# Altium footprint library PCB_Ticketing_Master.PcbLib: 25 footprints (part 1 of 2)
Each footprint in its own frame and in the unit in brackets; x right, y up, seen from the top. Pads: shape width x height; smd on the part's side, far side on the other; paste and mask are expansions set on the pad; w line width, h text height; cw(c..) or ccw(c..) is an arc to the next point about the centre after c.
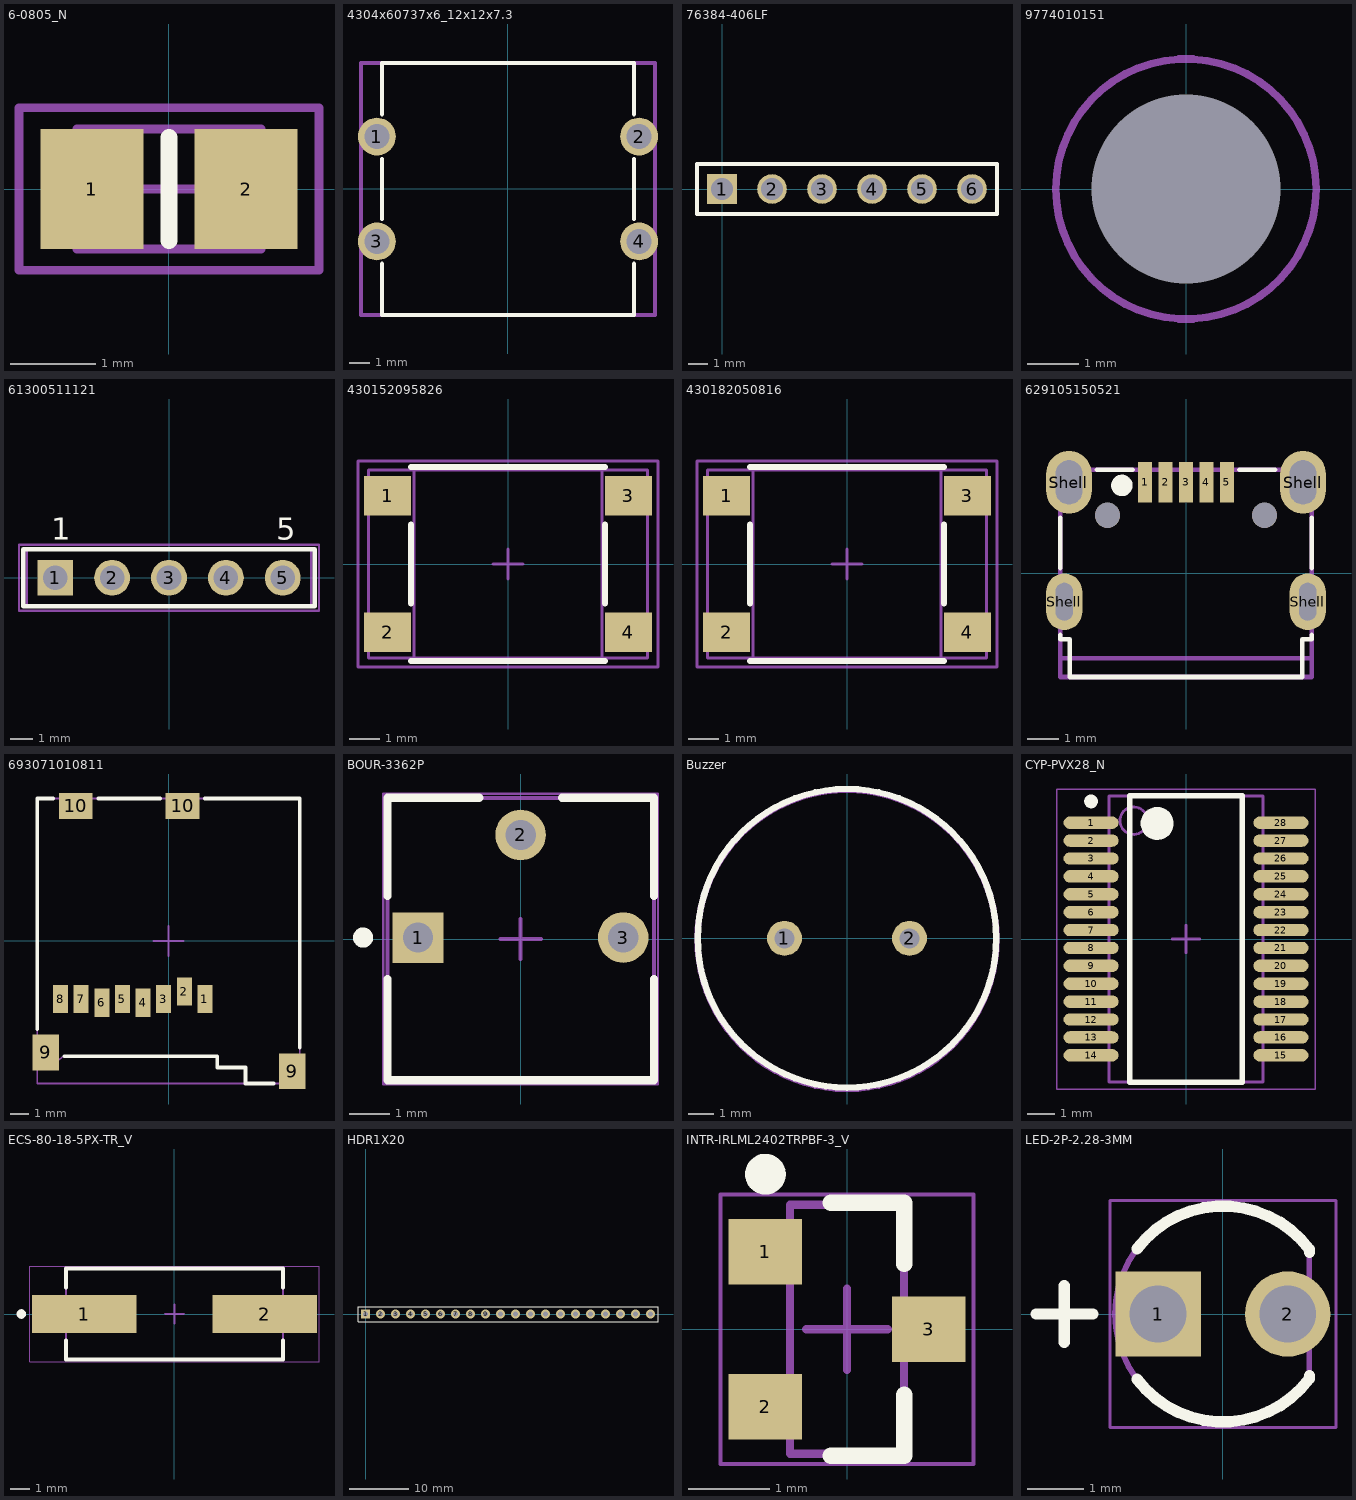
[diagram p0: the footprints below, top view; thin cyan lines are the x and y axes]

## 6-0805_N [mm] "Chip Resistor, Body 2.0x1.2mm, IPC Medium Density"
height 0.7
pads (2):
  rect 1.2x1.4 smd: 1(-0.9,0) 2(0.9,0)
Top Overlay:
  lines w0.2: 0,-0.6 0,0.6
Mechanical 13:
  lines w0.1: -1.075,-0.7 -1.075,0.7 1.075,0.7 1.075,-0.7 -1.075,-0.7
Mechanical 15:
  lines w0.1: -0.5,0 0.5,0 ; 0,-0.5 0,0.5 ; -1.75,-0.95 -1.75,0.95 1.75,0.95 1.75,-0.95 -1.75,-0.95
3D body: height 0.7, standoff 0, extent -1.075,-0.7 1.075,0.7

## 4304x60737x6_12x12x7.3 [mm] "12x12mm washable Tact Switch, THT version"
height 7.3
pads (4):
  round 1.8 hole 1.2: 1(-6.25,2.5) 2(6.25,2.5) 3(-6.25,-2.5) 4(6.25,-2.5)
Top Overlay:
  lines w0.2: -6,-3.56 -6,-6 6,-6 6,-3.56 ; -6,-1.43 -6,1.43 ; -6,3.56 -6,6 6,6 6,3.56 ; 6,-1.43 6,1.43
Mechanical 13:
  lines w0.2: -7,-6 7,-6 7,6 -7,6 -7,-6
3D body "4304x60737x6.stp": height 7.35, standoff -3.45, extent -6.985,-6 6.986,6

## 76384-406LF [mm] "Connector; Header; 6 Position"
pads (6):
  rect 1.5x1.5 hole 1.1: 1(0,0)
  round 1.5 hole 1.1: 2(2.54,0) 3(5.08,0) 4(7.62,0) 5(10.16,0) 6(12.7,0)
Top Overlay:
  lines w0.2: -1.27,-1.27 -1.27,1.27 13.97,1.27 13.97,-1.27 -1.27,-1.27
3D body "76384-406LF--3DModel-STEP-533217.STEP": height 8.84, standoff -3.93, extent -0.72,-2.575 13.52,2.674

## 9774010151 [mm] "M2.5 Thread Internal, Length 1mm"
height 1
pads (1):
  round 0 hole 3.7 unplated paste-403.566: 1(0,0)
Top Paste:
  region: 0.25,2.939 0.508,2.917 1.009,2.784 1.478,2.566 1.903,2.269 2.269,1.903 2.566,1.478 2.784,1.009 2.917,0.508 2.939,0.25 1.883,0.25 1.857,0.403 1.767,0.699 1.629,0.977 1.449,1.229 1.229,1.449 0.977,1.629 0.7,1.767 0.403,1.857 0.25,1.883
  region: -2.939,0.25 -2.917,0.508 -2.784,1.009 -2.566,1.478 -2.269,1.903 -1.903,2.269 -1.478,2.566 -1.009,2.784 -0.508,2.917 -0.25,2.939 -0.25,1.883 -0.403,1.857 -0.699,1.767 -0.977,1.629 -1.229,1.449 -1.449,1.229 -1.629,0.977 -1.767,0.7 -1.857,0.403 -1.883,0.25
  region: -0.25,-2.939 -0.508,-2.917 -1.009,-2.784 -1.478,-2.566 -1.903,-2.269 -2.269,-1.903 -2.566,-1.478 -2.784,-1.009 -2.917,-0.508 -2.939,-0.25 -1.883,-0.25 -1.857,-0.403 -1.767,-0.699 -1.629,-0.977 -1.449,-1.229 -1.229,-1.449 -0.977,-1.629 -0.7,-1.767 -0.403,-1.857 -0.25,-1.883
  region: 2.939,-0.25 2.917,-0.508 2.784,-1.009 2.566,-1.478 2.269,-1.903 1.903,-2.269 1.478,-2.566 1.009,-2.784 0.508,-2.917 0.25,-2.939 0.25,-1.883 0.403,-1.857 0.699,-1.767 0.977,-1.629 1.229,-1.449 1.449,-1.229 1.629,-0.977 1.767,-0.7 1.857,-0.403 1.883,-0.25
Mechanical 13:
  circle w0.15: c0,0 r2.55

## 61300511121 [mm] "Pin Header, pitch 2.54 mm, THT, Vertical, single row, 5p"
height 8.54
pads (5):
  rect 1.6x1.6 hole 1.1: 1(-5.08,0)
  round 1.6 hole 1.1: 2(-2.54,0) 3(0,0) 4(2.54,0) 5(5.08,0)
Top Overlay:
  lines w0.2: -6.5,-1.27 -6.5,1.27 6.5,1.27 6.5,-1.27 -6.5,-1.27
  text "5" at 4.8,1.7 h1
  text "1" at -5.27,1.7 h1
Mechanical 11:
  lines w0.1: -6.35,-1.27 6.35,-1.27 6.35,1.27 -6.35,1.27 -6.35,-1.27
Mechanical 13:
  lines w0.1: -6.5,-1.27 -6.5,1.27 6.5,1.27 6.5,-1.27 -6.5,-1.27
Mechanical 15:
  lines w0.1: -0.5,0 0.5,0 ; 0,-0.5 0,0.5 ; -6.7,-1.47 -6.7,1.47 6.7,1.47 6.7,-1.47 -6.7,-1.47
3D body "61300511121.stp": height 8.57, standoff -2.97, extent -6.35,-1.27 6.35,1.27

## 430152095826 [mm] "SMD Tact Switch, body 6x6mm"
height 9.5
pads (4):
  rect 1.55x1.3 smd: 1(-3.975,2.25) 2(-3.975,-2.25) 3(3.975,2.25) 4(3.975,-2.25)
Top Overlay:
  lines w0.2: -3.2,-3.2 3.2,-3.2 ; -3.2,-1.3 -3.2,1.3 ; -3.2,3.2 3.2,3.2 ; 3.2,-1.3 3.2,1.3
Mechanical 11:
  lines w0.1: -3.1,-3.1 -3.1,3.1 3.1,3.1 3.1,-3.1 -3.1,-3.1
Mechanical 13:
  lines w0.1: -4.6,-3.1 -4.6,3.1 4.6,3.1 4.6,-3.1 -4.6,-3.1
Mechanical 15:
  lines w0.1: -0.5,0 0.5,0 ; 0,-0.5 0,0.5 ; -4.95,-3.4 -4.95,3.4 4.95,3.4 4.95,-3.4 -4.95,-3.4
3D body "4301x20958x6.stp": height 9.53, standoff 0.03, extent -4.5,-3.1 4.5,3.1

## 430182050816 [mm] "SMD Tact Switch, body 6x6mm"
height 5
pads (4):
  rect 1.55x1.3 smd: 1(-3.975,2.25) 2(-3.975,-2.25) 3(3.975,2.25) 4(3.975,-2.25)
Top Overlay:
  lines w0.2: -3.2,-3.2 3.2,-3.2 ; -3.2,-1.3 -3.2,1.3 ; -3.2,3.2 3.2,3.2 ; 3.2,-1.3 3.2,1.3
Mechanical 11:
  lines w0.1: -3.1,-3.1 -3.1,3.1 3.1,3.1 3.1,-3.1 -3.1,-3.1
Mechanical 13:
  lines w0.1: -4.6,-3.1 -4.6,3.1 4.6,3.1 4.6,-3.1 -4.6,-3.1
Mechanical 15:
  lines w0.1: -0.5,0 0.5,0 ; 0,-0.5 0,0.5 ; -4.95,-3.4 -4.95,3.4 4.95,3.4 4.95,-3.4 -4.95,-3.4
3D body "4301x20508x6.stp": height 5.03, standoff 0.03, extent -4.5,-3.1 4.5,3.1

## 629105150521 [mm] "Micro USB 2.0 SMT Type B Horizontal 5 Contacts High Current"
height 2.66
pads (11):
  rect 0.45x1.3 smd: 1(-1.3,2.9) 2(-0.65,2.9) 3(0,2.9) 4(0.65,2.9) 5(1.3,2.9)
  oval 1.15x1.8 hole 0.55 slot 1.2 at 90 deg: Shell(-3.875,-0.9) Shell(3.875,-0.9)
  oval 1.45x2 hole 0.85 slot 1.4 at 90 deg: Shell(-3.725,2.9) Shell(3.725,2.9)
  round 0.8 hole 0.8 unplated: ""(-2.5,1.85) ""(2.5,1.85)
Top Overlay:
  circle w0.4: c-2.041,2.8 r0.141
  lines w0.15: -4,-1.96 -4,-2.1 -3.7,-2.1 -3.7,-3.3 3.7,-3.3 3.7,-2.1 4,-2.1 4,-1.96 ; -4,0.17 -4,1.77 ; -2.83,3.3 -1.7,3.3 ; 1.7,3.3 2.83,3.3 ; 4,0.17 4,1.77
Mechanical 13:
  lines w0.15: -4,-3.3 -4,3.3 4,3.3 4,-3.3 -4,-3.3
Mechanical 15:
  lines w0.15: -4,-2.7 4,-2.7
  text "PCB Edge" at -1.9,-2.4 h1
3D body "Download_STP_629105150521.stp": height 2.71, standoff -0.85, extent -4,-3.3 4,3.303

## 693071010811 [mm] "Micro SD Card Connector, Push & Push"
height 1.98
pads (12):
  rect 0.8x1.5 smd: 1(1.94,-3.1) 2(0.84,-2.7) 3(-0.26,-3.1) 4(-1.36,-3.3) 5(-2.46,-3.1) 6(-3.56,-3.3) 7(-4.66,-3.1) 8(-5.76,-3.1)
  rect 1.4x1.9 smd: 9(-6.55,-5.95) 9(6.6,-6.95)
  rect 1.8x1.4 smd: 10(-4.95,7.2) 10(0.75,7.2)
Top Overlay:
  lines w0.2: -7,-4.7 -7,7.6 -6.15,7.6 ; -5.55,-6.15 2.6,-6.15 2.6,-6.75 4.1,-6.75 4.1,-7.6 5.6,-7.6 ; -3.75,7.6 -0.45,7.6 ; 1.95,7.6 7,7.6 7,-5.7
Mechanical 11:
  lines w0.1: -6.2,-6.6 -7,-6.6 -7,7.6 7,7.6 7,-7.6 4.1,-7.6 4.1,-6.75 2.6,-6.75 2.6,-6.15 -5.6,-6.15 -6.199,-6.601
Mechanical 13:
  lines w0.1: -7,-7.61 7,-7.61 7,7.6 -7,7.6 -7,-7.61
Mechanical 15:
  lines w0.1: -0.8,0 0.8,0 ; 0,-0.8 0,0.8
3D body "693071010811.stp": height 1.85, standoff -0.05, extent -7,-7.61 7,7.6

## BOUR-3362P [mm] "THD, 3-Leads, Body 6.6x6.99mm, Pitch 2.54mm"
height 4.95
pads (3):
  rect 1.25x1.25 hole 0.75: 1(-2.54,0.035)
  round 1.25 hole 0.75: 2(0,2.575) 3(2.54,0.035)
Top Overlay:
  circle w0.25: c-3.9,0.035 r0.125
  lines w0.2: -3.3,-0.99 -3.3,-3.495 3.3,-3.495 3.3,-0.99 ; -3.3,1.06 -3.3,3.495 -1.025,3.495 ; 1.025,3.495 3.3,3.495 3.3,1.06
Mechanical 13:
  lines w0.1: -3.3,-3.495 -3.3,3.495 3.3,3.495 3.3,-3.495 -3.3,-3.495
Mechanical 15:
  lines w0.05: -3.4,-3.595 3.4,-3.595 3.4,3.595 -3.4,3.595 -3.4,-3.595
  lines w0.1: -0.5,0 0.5,0 ; 0,-0.5 0,0.5
3D body: height 4.95, standoff 0, extent -3.299,-3.494 3.299,3.494

## Buzzer [mm] "Buzzer d_12mm"
height 3.5
pads (2):
  round 1.4 hole 0.8: 1(-2.5,0) 2(2.5,0)
Top Overlay:
  circle w0.254: c0,0 r5.969
Mechanical 13:
  circle w0.254: c0,-0.047 r5.978
3D body: height 6.5, standoff 0.5, extent -5.969,-5.715 5.969,5.715

## CYP-PVX28_N [mm] "SOP, 28-Leads, Body 10.2x5.3mm, Pitch 0.65mm, IPC Medium Density"
height 2
pads (28):
  oval 2x0.45 smd: 1(-3.45,4.225) 2(-3.45,3.575) 3(-3.45,2.925) 4(-3.45,2.275) 5(-3.45,1.625) 6(-3.45,0.975) 7(-3.45,0.325) 8(-3.45,-0.325) 9(-3.45,-0.975) 10(-3.45,-1.625) 11(-3.45,-2.275) 12(-3.45,-2.925) 13(-3.45,-3.575) 14(-3.45,-4.225) 15(3.45,-4.225) 16(3.45,-3.575) 17(3.45,-2.925) 18(3.45,-2.275) 19(3.45,-1.625) 20(3.45,-0.975) 21(3.45,-0.325) 22(3.45,0.325) 23(3.45,0.975) 24(3.45,1.625) 25(3.45,2.275) 26(3.45,2.925) 27(3.45,3.575) 28(3.45,4.225)
Top Overlay:
  circle w0.25: c-3.45,5 r0.125
  circle w0.6: c-1.05,4.2 r0.3
  lines w0.2: -2.05,-5.2 -2.05,5.2 2.05,5.2 2.05,-5.2 -2.05,-5.2
Mechanical 13:
  circle w0.1: c-1.9,4.3 r0.5
  lines w0.1: -2.8,-5.2 -2.8,5.2 2.8,5.2 2.8,-5.2 -2.8,-5.2
Mechanical 15:
  lines w0.05: -4.7,-5.45 -4.7,5.45 4.7,5.45 4.7,-5.45 -4.7,-5.45
  lines w0.1: -0.5,0 0.5,0 ; 0,-0.5 0,0.5
3D body "DAC8820IBDB.STEP": height 1.75, standoff 0, extent -3,-4.95 3,4.95

## ECS-80-18-5PX-TR_V [mm] "SMD, 2-Leads, Body 11.4x4.8mm, Height 4.3mm"
height 4.3
pads (2):
  rect 5.5x2 smd: 1(-4.75,0) 2(4.75,0)
Top Overlay:
  circle w0.25: c-8.05,0 r0.125
  lines w0.2: -5.7,-1.4 -5.7,-2.4 5.7,-2.4 5.7,-1.4 ; -5.7,1.4 -5.7,2.4 5.7,2.4 5.7,1.4
Mechanical 13:
  lines w0.1: -5.7,-2.4 5.7,-2.4 5.7,2.4 -5.7,2.4 -5.7,-2.4
Mechanical 15:
  lines w0.05: -7.6,-2.5 -7.6,2.5 7.6,2.5 7.6,-2.5 -7.6,-2.5
  lines w0.1: -0.5,0 0.5,0 ; 0,-0.5 0,0.5
3D body: height 1, standoff 0.75, extent -5.676,-2.401 5.676,2.401
3D body: height 4.3, standoff 1, extent -5.151,-1.901 5.151,1.901
3D body: height 0.75, standoff 0.05, extent -5.699,-2.399 5.699,2.399
3D body: height 0.3, standoff 0, extent -6.599,-0.314 -2.201,0.314
3D body: height 0.3, standoff 0, extent 2.2,-0.314 6.599,0.315

## HDR1X20 [mm] "Connector; Header; 20 Position"
height 8.54
pads (20):
  rect 1.5x1.5 hole 0.9: 1(0,0)
  round 1.5 hole 0.9: 2(2.54,0) 3(5.08,0) 4(7.62,0) 5(10.16,0) 6(12.7,0) 7(15.24,0) 8(17.78,0) 9(20.32,0) 10(22.86,0) 11(25.4,0) 12(27.94,0) 13(30.48,0) 14(33.02,0) 15(35.56,0) 16(38.1,0) 17(40.64,0) 18(43.18,0) 19(45.72,0) 20(48.26,0)
Top Overlay:
  lines w0.2: -1.27,-1.27 49.53,-1.27 49.53,1.27 0.635,1.27 -1.27,1.27 -1.27,-1.27

## INTR-IRLML2402TRPBF-3_V [mm] "SOT23, 3-Leads, Body 3.05x1.4mm, Pitch 0.95mm"
height 1.11
pads (3):
  rect 0.9x0.8 smd: 1(-1,0.95) 2(-1,-0.95) 3(1,0)
Top Overlay:
  circle w0.25: c-1,1.9 r0.125
  lines w0.2: -0.2,-1.55 0.7,-1.55 0.7,-0.8 ; -0.2,1.55 0.7,1.55 0.7,0.8
Mechanical 13:
  lines w0.1: -0.7,-1.525 0.7,-1.525 0.7,1.525 -0.7,1.525 -0.7,-1.525
Mechanical 15:
  lines w0.05: -1.55,-1.65 1.55,-1.65 1.55,1.65 -1.55,1.65 -1.55,-1.65
  lines w0.1: -0.5,0 0.5,0 ; 0,-0.5 0,0.5
3D body: height 1.11, standoff 0.02, extent -0.7,-1.525 0.7,1.525

## LED-2P-2.28-3MM [mm] "LED, 2-Leads, Dia 3mm, Pitch 2.28mm"
height 5.3
pads (2):
  rect 1.5x1.5 hole 1: 1(-1.14,0)
  round 1.5 hole 1: 2(1.14,0)
Top Overlay:
  lines w0.2: -3.29,0 -2.29,0 ; -2.79,-0.5 -2.79,0.5 ; -1.512,-1.151 ccw(c0,0) 1.52,-1.14 1.524,-1.085 ; -1.512,1.151 cw(c0,0) 1.52,1.14 1.524,1.085
Mechanical 13:
  lines w0.1: 1.52,-1.14 cw(c0,0) 1.52,1.14 1.52,-1.14
Mechanical 15:
  lines w0.05: -1.99,-2 1.99,-2 1.99,2 -1.99,2 -1.99,-2
3D body: height 0, standoff -17, extent 0.89,-0.25 1.39,0.25
3D body: height 0, standoff -19, extent -1.39,-0.25 -0.89,0.25
3D body: height 3.8, standoff 1, extent -1.5,-1.499 1.5,1.5
3D body: height 5.3, standoff 2.3, extent -1.498,-1.5 1.5,1.5
3D body: height 1, standoff 0, extent -1.901,-1.911 1.521,1.911